# Altium schematic symbol library 220to12.SchLib: 1 symbol
Pins are listed as number, name and electrical type; pins without a type are passive.

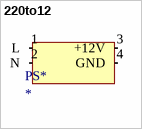
[diagram p0: symbol 220to12]

## 220to12
designator PS*
footprint 220to12
pins: 1 L, 2 N, 3 +12V, 4 GND